# EAGLE library part P4S_20_3MM_BOT (library ck)
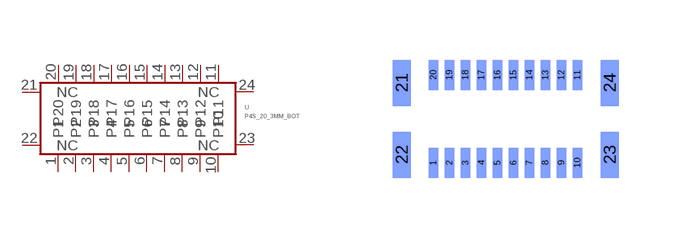
[diagram p11: symbol with the pads of P4S_20MM_3MM_BOT; footprint P4S_20MM_3MM_BOT]

Designator prefix U

## P4S_20_3MM_BOT  [P4S_20MM_3MM_BOT]
1  P1
2  P2
3  P3
4  P4
5  P5
6  P6
7  P7
8  P8
9  P9
10  P10
11  P11
12  P12
13  P13
14  P14
15  P15
16  P16
17  P17
18  P18
19  P19
20  P20
21  NC
22  NC
23  NC
24  NC

## Footprint P4S_20MM_3MM_BOT (pad centres in mm)
smd 0.23 x 0.75 bottom: 1 0.8,-2; 2 1.2,-2; 3 1.6,-2; 4 2,-2; 5 2.4,-2; 6 2.8,-2; 7 3.2,-2; 8 3.6,-2; 9 4,-2; 10 4.4,-2; 11 4.4,0.2; 12 4,0.2; 13 3.6,0.2; 14 3.2,0.2; 15 2.8,0.2; 16 2.4,0.2; 17 2,0.2; 18 1.6,0.2; 19 1.2,0.2; 20 0.8,0.2
smd 0.45 x 1.15 bottom: 21 0,0; 22 0,-1.8; 23 5.2,-1.8; 24 5.2,0